# Altium footprint library SOT223-89 TO252.PcbLib: 1 footprints
Each footprint in its own frame and in the unit in brackets; x right, y up, seen from the top. Pads: shape width x height; smd on the part's side, far side on the other; paste and mask are expansions set on the pad; w line width, h text height; cw(c..) or ccw(c..) is an arc to the next point about the centre after c.
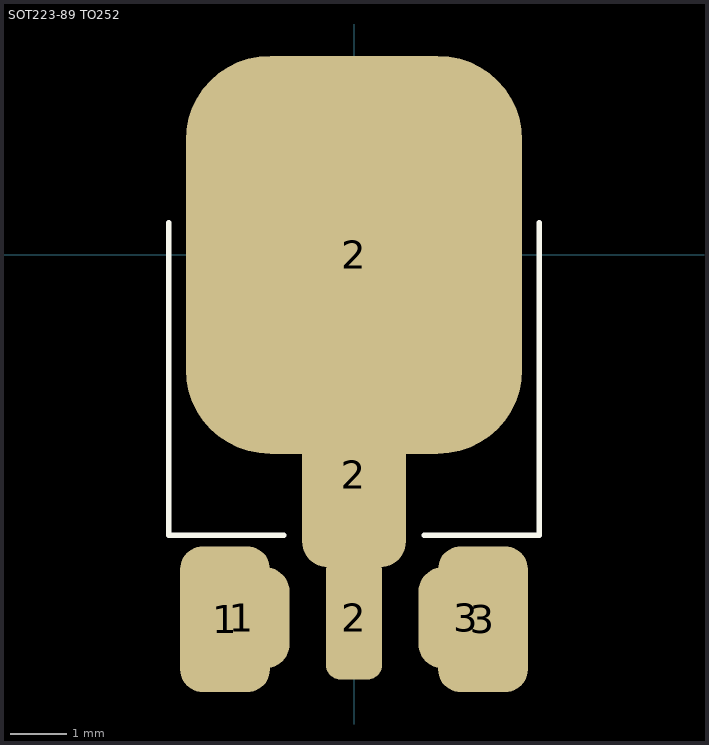
[diagram p0: the footprint, top view; thin cyan lines are the x and y axes]

## SOT223-89 TO252 [mm] "SOT-223/SC-73; 4 Leads; Body 6.7 x 7.3 mm, inc. leads (LxW max)"
height 1.8
pads (7):
  rrect50% 1.6x2.6 smd paste-0.05: 1(-2.3,-6.5) 3(2.3,-6.5)
  rrect50% 1.7x1.8 smd: 1(-2,-6.475) 3(2,-6.475)
  rrect50% 1.85x3.3 smd: 2(0,-3.925)
  rrect50% 1x2.2 smd: 2(0,-6.475)
  rrect50% 6x7.1 smd paste-0.05: 2(0,0)
Top Overlay:
  lines w0.1: -3.302,0.575 -3.302,-5 -1.25,-5 ; 1.25,-5 3.302,-5 3.302,0.575
3D body "SOT89.STEP": height 1.5, standoff 0, extent -2.25,-6.447 2.25,-2.352
3D body "DPAK (TO-252AA).STEP": height 2.37, standoff -0.03, extent -3.367,-7.35 3.367,2.75